# Altium integrated library rload.IntLib: 1 symbol
Pins are listed as number, name and electrical type; pins without a type are passive.

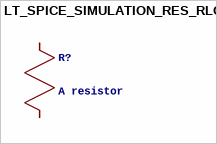
[diagram p0: symbol LT_SPICE_SIMULATION_RES_RLOAD]

## LT_SPICE_SIMULATION_RES_RLOAD
designator R?, comment A resistor
pins: ?1 A, ?2 B